# EAGLE library part PAN1322-SPP (library panasonic)
BLUETOOTH MODULE
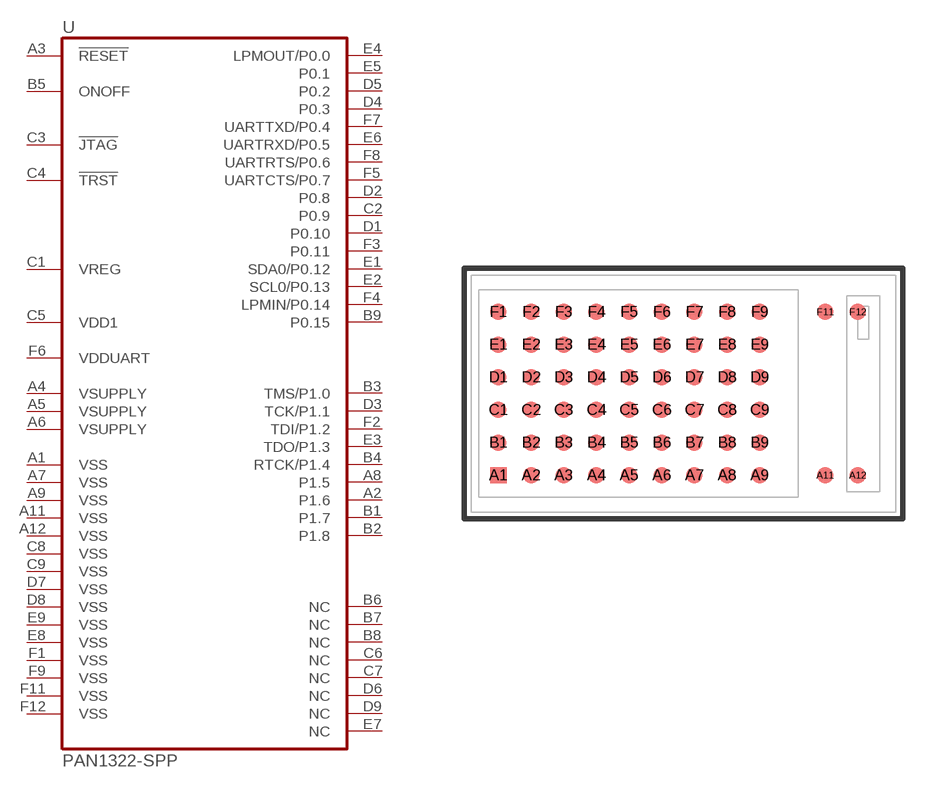
[diagram p1: symbol with the pads of LGA57; footprint LGA57]

Designator prefix U

## PAN1322-SPP  [LGA57]
A1  VSS  pwr
A2  P1.6
A3  !RESET!  in
A4  VSUPPLY  pwr
A5  VSUPPLY  pwr
A6  VSUPPLY  pwr
A7  VSS  pwr
A8  P1.5
A9  VSS  pwr
A11  VSS  pwr
A12  VSS  pwr
B1  P1.7
B2  P1.8
B3  TMS/P1.0
B4  RTCK/P1.4
B5  ONOFF  in
B6  NC  nc
B7  NC  nc
B8  NC  nc
B9  P0.15
C1  VREG  out
C2  P0.9
C3  !JTAG!  out
C4  !TRST!  in
C5  VDD1  pwr
C6  NC  nc
C7  NC  nc
C8  VSS  pwr
C9  VSS  pwr
D1  P0.10
D2  P0.8
D3  TCK/P1.1
D4  P0.3
D5  P0.2
D6  NC  nc
D7  VSS  pwr
D8  VSS  pwr
D9  NC  nc
E1  SDA0/P0.12
E2  SCL0/P0.13
E3  TDO/P1.3
E4  LPMOUT/P0.0
E5  P0.1
E6  UARTRXD/P0.5
E7  NC  nc
E8  VSS  pwr
E9  VSS  pwr
F1  VSS  pwr
F2  TDI/P1.2
F3  P0.11
F4  LPMIN/P0.14
F5  UARTCTS/P0.7
F6  VDDUART  pwr
F7  UARTTXD/P0.4
F8  UARTRTS/P0.6
F9  VSS  pwr
F11  VSS  pwr
F12  VSS  pwr

## Footprint LGA57 (pad centres in mm)
LGA 57 8.7mm x 15.6mm, PAN1322-SPP
smd 0.6 x 0.6: A1 -4.8,-3; A2 -3.6,-3; A3 -2.4,-3; A4 -1.2,-3; A5 0,-3; A6 1.2,-3; A7 2.4,-3; A8 3.6,-3; A9 4.8,-3; A11 7.2,-3; A12 8.4,-3; B1 -4.8,-1.8; B2 -3.6,-1.8; B3 -2.4,-1.8; B4 -1.2,-1.8; B5 0,-1.8; B6 1.2,-1.8; B7 2.4,-1.8; B8 3.6,-1.8; B9 4.8,-1.8; C1 -4.8,-0.6; C2 -3.6,-0.6; C3 -2.4,-0.6; C4 -1.2,-0.6; C5 0,-0.6; C6 1.2,-0.6; C7 2.4,-0.6; C8 3.6,-0.6; C9 4.8,-0.6; D1 -4.8,0.6; D2 -3.6,0.6; D3 -2.4,0.6; D4 -1.2,0.6; D5 0,0.6; D6 1.2,0.6; D7 2.4,0.6; D8 3.6,0.6; D9 4.8,0.6; E1 -4.8,1.8; E2 -3.6,1.8; E3 -2.4,1.8; E4 -1.2,1.8; E5 0,1.8; E6 1.2,1.8; E7 2.4,1.8; E8 3.6,1.8; E9 4.8,1.8; F1 -4.8,3; F2 -3.6,3; F3 -2.4,3; F4 -1.2,3; F5 0,3; F6 1.2,3; F7 2.4,3; F8 3.6,3; F9 4.8,3; F11 7.2,3; F12 8.4,3